# Altium schematic symbol library ERJ-P08J220V.SchLib: 1 symbol
Pins are listed as number, name and electrical type; pins without a type are passive.

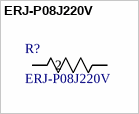
[diagram p0: symbol ERJ-P08J220V]

## ERJ-P08J220V
designator R?
No Description Available; Manufacturer_Name: Panasonic; Copyright: Copyright (C) 2025 Ultra Librarian. All rights reserved.; Manufacturer_Part_Number: ERJ-P08J220V
footprint RC1206N_PAN
pins: 1, 2